# Altium footprint library Connectors.PcbLib: 76 footprints (part 3 of 5)
Each footprint in its own frame and in the unit in brackets; x right, y up, seen from the top. Pads: shape width x height; smd on the part's side, far side on the other; paste and mask are expansions set on the pad; w line width, h text height; cw(c..) or ccw(c..) is an arc to the next point about the centre after c.
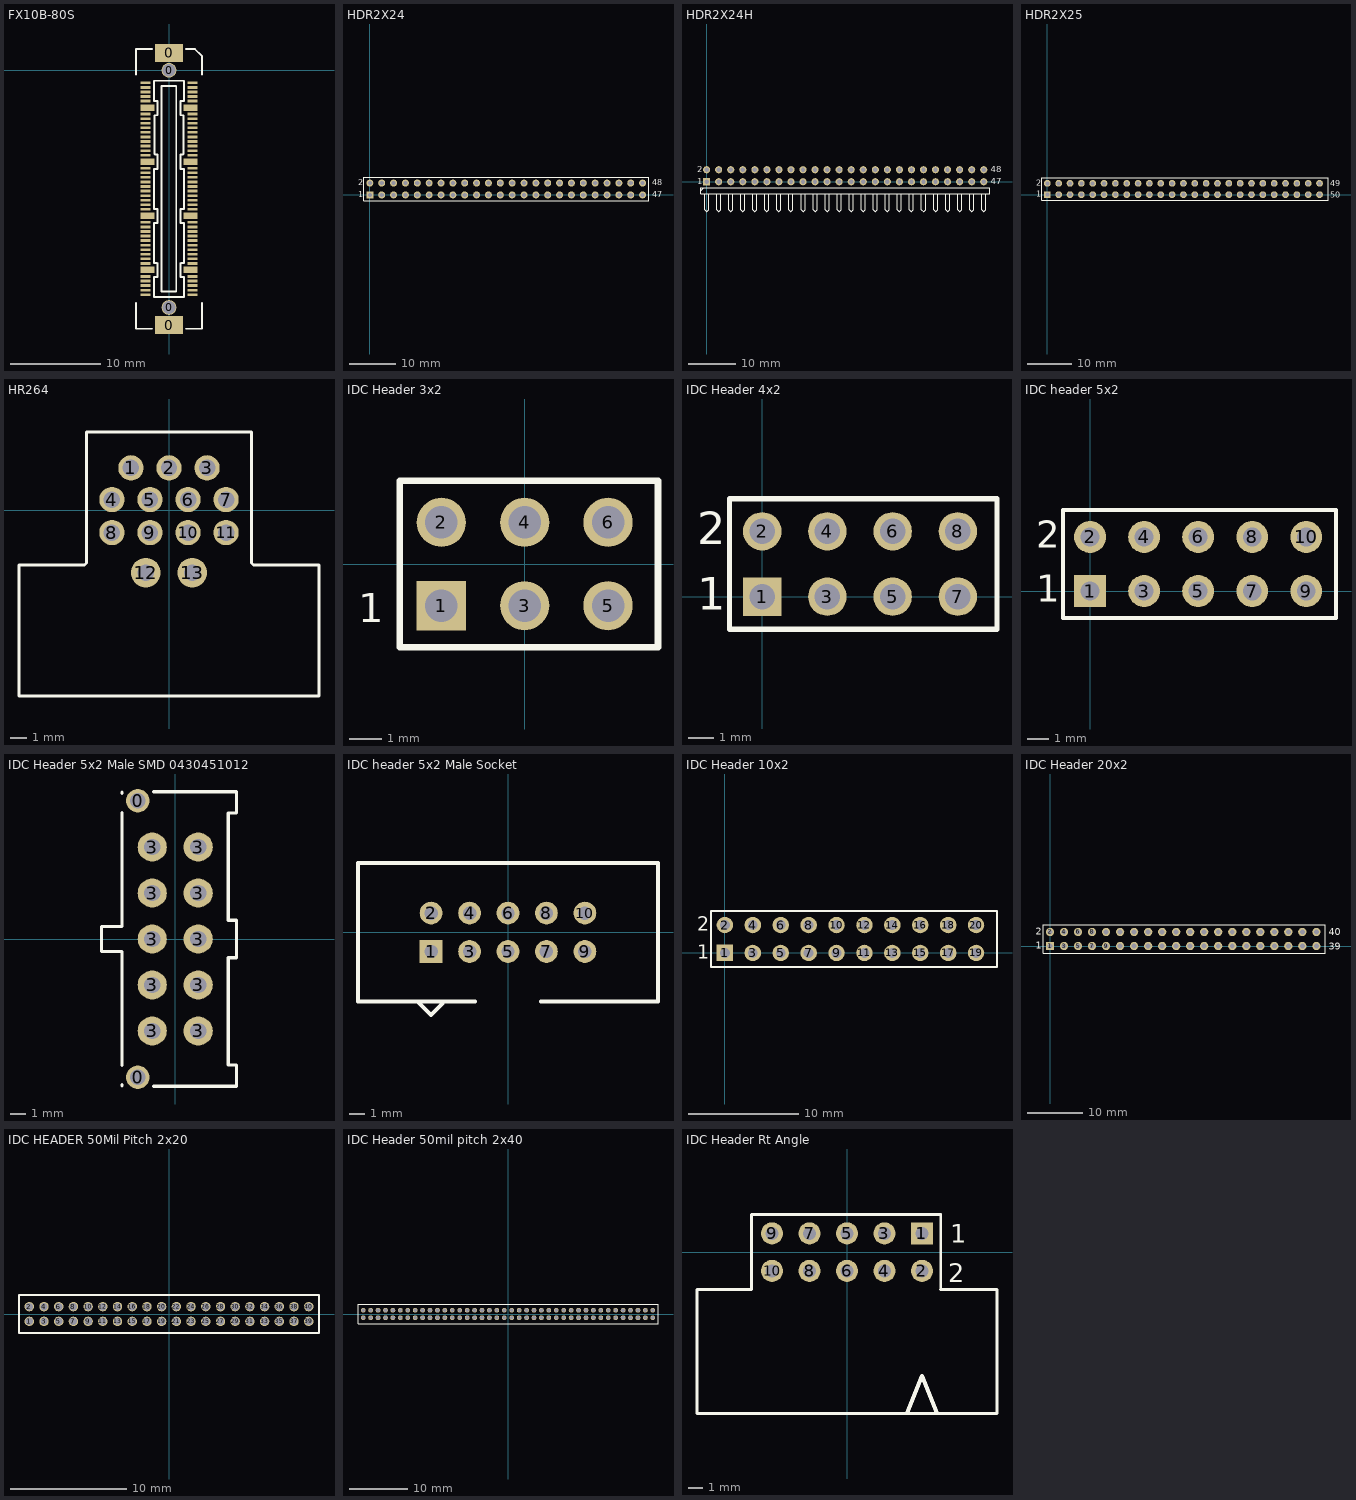
[diagram p2: the footprints below, top view; thin cyan lines are the x and y axes]

## FX10B-80S [mil]
pads (92):
  rect 60x28 smd: 0(-94,-874) 0(-94,-637) 0(-94,-401) 0(-94,-164) 0(94,-874) 0(94,-637) 0(94,-401) 0(94,-164)
  rect 122x78 smd: 0(0,-1116) 0(0,76)
  round 65 hole 55: 0(0,-1039) 0(0,0)
  rect 43x12 smd: 1(103,-55) 2(-103,-55) 3(103,-75) 4(-103,-75) 5(103,-95) 6(-103,-95) 7(103,-115) 8(-103,-115) 9(103,-135) 10(-103,-135) 11(103,-192) 12(-103,-192) 13(103,-212) 14(-103,-212) 15(103,-232) 16(-103,-232) 17(103,-252) 18(-103,-252) 19(103,-272) 20(-103,-272) 21(103,-292) 22(-103,-292) 23(103,-312) 24(-103,-312) 25(103,-332) 26(-103,-332) 27(103,-352) 28(-103,-352) 29(103,-372) 30(-103,-372) 31(103,-429) 32(-103,-429) 33(103,-449) 34(-103,-449) 35(103,-469) 36(-103,-469) 37(103,-489) 38(-103,-489) 39(103,-509) 40(-103,-509) 41(103,-529) 42(-103,-529) 43(103,-549) 44(-103,-549) 45(103,-569) 46(-103,-569) 47(103,-589) 48(-103,-589) 49(103,-609) 50(-103,-609) 51(103,-666) 52(-103,-666) 53(103,-686) 54(-103,-686) 55(103,-706) 56(-103,-706) 57(103,-726) 58(-103,-726) 59(103,-746) 60(-103,-746) 61(103,-766) 62(-103,-766) 63(103,-786) 64(-103,-786) 65(103,-806) 66(-103,-806) 67(103,-826) 68(-103,-826) 69(103,-846) 70(-103,-846) 71(103,-903) 72(-103,-903) 73(103,-923) 74(-103,-923) 75(103,-943) 76(-103,-943) 77(103,-963) 78(-103,-963) 79(103,-983) 80(-103,-983)
Top Overlay:
  lines w8: -144,-1020 -144,-1132 -75,-1132 ; -144,-19 -144,93 -75,93 ; 75,-1132 144,-1132 144,-1020 ; 75,93 114,93 144,63 144,-19 ; -65,-993 65,-993 65,-905 50,-905 50,-846 52,-844 65,-844 65,-669 51,-669 50,-670 50,-607 65,-607 65,-432 51,-432 51,-369 62,-369 63,-368 63,-197 51,-197 51,-134 65,-134 65,-46 -65,-46 -65,-134 -51,-134 -51,-197 -63,-197 -63,-368 -62,-369 -51,-369 -51,-432 -65,-432 -65,-607 -50,-607 -50,-670 -51,-669 -65,-669 -65,-844 -52,-844 -50,-846 -50,-905 -65,-905 -65,-993 ; -33,-969 32,-969 32,-69 -33,-69 -33,-969
3D body: height 131.24, standoff 5.26, extent -143,-1131.41 144.4,93

## HDR2X24 [mm] "Connector; Header; 24x2 Position"
pads (48):
  rect 1.5x1.5 hole 0.9: 1(0,0)
  round 1.5 hole 0.9: 2(0,2.54) 3(2.54,0) 4(2.54,2.54) 5(5.08,0) 6(5.08,2.54) 7(7.62,0) 8(7.62,2.54) 9(10.16,0) 10(10.16,2.54) 11(12.7,0) 12(12.7,2.54) 13(15.24,0) 14(15.24,2.54) 15(17.78,0) 16(17.78,2.54) 17(20.32,0) 18(20.32,2.54) 19(22.86,0) 20(22.86,2.54) 21(25.4,0) 22(25.4,2.54) 23(27.94,0) 24(27.94,2.54) 25(30.48,0) 26(30.48,2.54) 27(33.02,0) 28(33.02,2.54) 29(35.56,0) 30(35.56,2.54) 31(38.1,0) 32(38.1,2.54) 33(40.64,0) 34(40.64,2.54) 35(43.18,0) 36(43.18,2.54) 37(45.72,0) 38(45.72,2.54) 39(48.26,0) 40(48.26,2.54) 41(50.8,0) 42(50.8,2.54) 43(53.34,0) 44(53.34,2.54) 45(55.88,0) 46(55.88,2.54) 47(58.42,0) 48(58.42,2.54)
Top Overlay:
  lines w0.2: -1.27,-1.27 59.69,-1.27 59.69,3.81 -1.27,3.81 -1.27,-1.27
  text "2" at -2.54,2.032 h1.27
  text "1" at -2.54,-0.508 h1.27
  text "48" at 60.452,2.032 h1.27
  text "47" at 60.452,-0.508 h1.27

## HDR2X24H [mm] "Connector; Header; 24x2 Position; Right Angle"
pads (48):
  rect 1.5x1.5 hole 0.9: 1(0,0)
  round 1.5 hole 0.9: 2(0,2.54) 3(2.54,0) 4(2.54,2.54) 5(5.08,0) 6(5.08,2.54) 7(7.62,0) 8(7.62,2.54) 9(10.16,0) 10(10.16,2.54) 11(12.7,0) 12(12.7,2.54) 13(15.24,0) 14(15.24,2.54) 15(17.78,0) 16(17.78,2.54) 17(20.32,0) 18(20.32,2.54) 19(22.86,0) 20(22.86,2.54) 21(25.4,0) 22(25.4,2.54) 23(27.94,0) 24(27.94,2.54) 25(30.48,0) 26(30.48,2.54) 27(33.02,0) 28(33.02,2.54) 29(35.56,0) 30(35.56,2.54) 31(38.1,0) 32(38.1,2.54) 33(40.64,0) 34(40.64,2.54) 35(43.18,0) 36(43.18,2.54) 37(45.72,0) 38(45.72,2.54) 39(48.26,0) 40(48.26,2.54) 41(50.8,0) 42(50.8,2.54) 43(53.34,0) 44(53.34,2.54) 45(55.88,0) 46(55.88,2.54) 47(58.42,0) 48(58.42,2.54)
Top Overlay:
  lines w0.2: -1.27,-1.905 -0.635,-1.27 ; -0.423,-2.54 -0.423,-5.927 0,-6.35 0.423,-5.927 0.423,-2.54 ; 2.117,-2.54 2.117,-5.927 2.54,-6.35 2.963,-5.927 2.963,-2.54 ; 4.657,-2.54 4.657,-5.927 5.08,-6.35 5.503,-5.927 5.503,-2.54 ; 7.197,-2.54 7.197,-5.927 7.62,-6.35 8.043,-5.927 8.043,-2.54 ; 9.737,-2.54 9.737,-5.927 10.16,-6.35 10.583,-5.927 10.583,-2.54 ; 12.277,-2.54 12.277,-5.927 12.7,-6.35 13.123,-5.927 13.123,-2.54 ; 14.817,-2.54 14.817,-5.927 15.24,-6.35 15.663,-5.927 15.663,-2.54 ; 17.357,-2.54 17.357,-5.927 17.78,-6.35 18.203,-5.927 18.203,-2.54 ; 19.897,-2.54 19.897,-5.927 20.32,-6.35 20.743,-5.927 20.743,-2.54 ; 22.437,-2.54 22.437,-5.927 22.86,-6.35 23.283,-5.927 23.283,-2.54 ; 24.977,-2.54 24.977,-5.927 25.4,-6.35 25.823,-5.927 25.823,-2.54 ; 27.517,-2.54 27.517,-5.927 27.94,-6.35 28.363,-5.927 28.363,-2.54 ; 30.057,-2.54 30.057,-5.927 30.48,-6.35 30.903,-5.927 30.903,-2.54 ; 32.597,-2.54 32.597,-5.927 33.02,-6.35 33.443,-5.927 33.443,-2.54 ; 35.137,-2.54 35.137,-5.927 35.56,-6.35 35.983,-5.927 35.983,-2.54 ; 37.677,-2.54 37.677,-5.927 38.1,-6.35 38.523,-5.927 38.523,-2.54 ; 40.217,-2.54 40.217,-5.927 40.64,-6.35 41.063,-5.927 41.063,-2.54 ; 42.757,-2.54 42.757,-5.927 43.18,-6.35 43.603,-5.927 43.603,-2.54 ; 45.297,-2.54 45.297,-5.927 45.72,-6.35 46.143,-5.927 46.143,-2.54 ; 47.837,-2.54 47.837,-5.927 48.26,-6.35 48.683,-5.927 48.683,-2.54 ; 50.377,-2.54 50.377,-5.927 50.8,-6.35 51.223,-5.927 51.223,-2.54 ; 52.917,-2.54 52.917,-5.927 53.34,-6.35 53.763,-5.927 53.763,-2.54 ; 55.457,-2.54 55.457,-5.927 55.88,-6.35 56.303,-5.927 56.303,-2.54 ; 57.997,-2.54 57.997,-5.927 58.42,-6.35 58.843,-5.927 58.843,-2.54 ; -1.27,-2.54 -1.27,-1.27 59.69,-1.27 59.69,-2.54 -1.27,-2.54
  text "48" at 59.944,2.032 h1.27
  text "47" at 59.944,-0.508 h1.27
  text "1" at -2.032,-0.508 h1.27
  text "2" at -2.032,2.032 h1.27

## HDR2X25 [mm]
pads (50):
  rect 1.5x1.5 hole 0.889: 1(0,0)
  round 1.5 hole 0.889: 2(0,2.54) 3(2.54,0) 4(2.54,2.54) 5(5.08,0) 6(5.08,2.54) 7(7.62,0) 8(7.62,2.54) 9(10.16,0) 10(10.16,2.54) 11(12.7,0) 12(12.7,2.54) 13(15.24,0) 14(15.24,2.54) 15(17.78,0) 16(17.78,2.54) 17(20.32,0) 18(20.32,2.54) 19(22.86,0) 20(22.86,2.54) 21(25.4,0) 22(25.4,2.54) 23(27.94,0) 24(27.94,2.54) 25(30.48,0) 28(33.02,2.54) 29(35.56,0) 30(35.56,2.54) 31(38.1,0) 33(40.64,0) 34(40.64,2.54) 35(43.18,0) 36(43.18,2.54) 37(45.72,0) 38(45.72,2.54) 39(48.26,0) 40(48.26,2.54) 41(50.8,0) 42(50.8,2.54) 43(53.34,0) 44(53.34,2.54) 45(55.88,0) 46(55.88,2.54) 47(58.42,0) 48(58.42,2.54) 49(60.96,2.54) 50(60.96,0)
  round 1.5 hole 0.9: 26(30.48,2.54) 27(33.02,0) 32(38.1,2.54)
Top Overlay:
  lines w0.2: -1.27,-1.27 62.865,-1.27 62.865,3.81 -1.27,3.81 -1.27,-1.27
  text "2" at -2.54,2.032 h1.27
  text "1" at -2.54,-0.508 h1.27
  text "49" at 63.373,1.905 h1.27
  text "50" at 63.373,-0.635 h1.27

## HR264 [mil] "13 Pin Quick Con"
pads (13):
  round 60 hole 39: 1(-90,100) 2(0,100) 3(90,100) 4(-135,25) 5(-45,25) 6(45,25) 7(135,25) 8(-135,-53) 9(-45,-53) 10(45,-53) 11(135,-53)
  round 70 hole 39: 12(-55,-148) 13(55,-148)
Top Overlay:
  lines w7: -355,-440 355,-440 355,-130 200,-130 195,-125 195,185 -195,185 -195,-125 -200,-130 -355,-130 -355,-440

## HS383-ND [mil]

## IDC Header 3x2 [mm] "Dual SIP header"
height 5.08
pads (6):
  rect 1.5x1.5 hole 0.991: 1(-2.54,-1.27)
  round 1.5 hole 0.991: 2(-2.54,1.27) 3(0,-1.27) 4(0,1.27) 5(2.54,-1.27) 6(2.54,1.27)
Top Overlay:
  lines w0.2: -3.81,-2.54 -3.81,2.54
  lines w0.203: -3.81,-2.54 4.064,-2.54 4.064,2.54 -3.81,2.54
  text "1" at -5.08,-1.778 h0.89
3D body: height 5.21, standoff -3.3, extent -3.81,-2.54 3.81,2.54

## IDC Header 4x2 [mm]
pads (8):
  rect 1.5x1.5 hole 0.991: 1(0,0)
  round 1.5 hole 0.991: 2(0,2.54) 3(2.54,0) 4(2.54,2.54) 5(5.08,0) 6(5.08,2.54) 7(7.62,0) 8(7.62,2.54)
Top Overlay:
  lines w0.2: -1.27,-1.27 -1.27,3.81
  lines w0.203: -1.27,-1.27 9.144,-1.27 9.144,3.81 -1.27,3.81
  text "1" at -2.54,-0.508 h1.27
  text "2" at -2.54,2.032 h1.27

## IDC header 5x2 [mm]
pads (10):
  rect 1.5x1.5 hole 0.889: 1(0,0)
  round 1.5 hole 0.889: 2(0,2.54) 3(2.54,0) 4(2.54,2.54) 5(5.08,0) 6(5.08,2.54) 7(7.62,0) 8(7.62,2.54) 9(10.16,0) 10(10.16,2.54)
Top Overlay:
  lines w0.2: -1.27,-1.27 -1.27,3.81
  lines w0.203: -1.27,-1.27 11.557,-1.27 11.557,3.81 -1.27,3.81
  text "2" at -2.54,2.032 h1.27
  text "1" at -2.54,-0.508 h1.27
3D body: height 5.21, standoff -2.41, extent -1.27,-1.27 11.43,3.81

## IDC Header 5x2 Male SMD 0430451012 [mil]
pads (12):
  round 60 hole 40: 0(-96,-355) 0(-96,355)
  round 75 hole 42: 3(-59,-236) 3(-59,-118) 3(-59,0) 3(-59,118) 3(-59,236) 3(59,-236) 3(59,-118) 3(59,0) 3(59,118) 3(59,236)
Top Overlay:
  lines w8: -137,-377 -137,-373 ; -137,-325 -137,-32 -189,-32 -189,0 -189,32 -137,32 -137,325 ; -137,373 -137,377 ; -55,-378 157,-378 157,-323 136,-323 136,-48 157,-48 157,0 157,48 136,48 136,323 157,323 157,378 -55,378
3D body: height 394.88, standoff -120.47, extent -188.28,-376 157,377.94

## IDC header 5x2 Male Socket [mm] "10 pin Male IDE socket"
height 8.89
pads (10):
  rect 1.5x1.5 hole 0.889: 1(-5.08,-1.27)
  round 1.5 hole 0.889: 2(-5.08,1.27) 3(-2.54,-1.27) 4(-2.54,1.27) 5(0,-1.27) 6(0,1.27) 7(2.54,-1.27) 8(2.54,1.27) 9(5.08,-1.27) 10(5.08,1.27)
Top Overlay:
  lines w0.254: -6.223,-4.572 -5.969,-4.572 -5.08,-5.461 -4.318,-4.699 -4.318,-4.572 ; -2.159,-4.572 -9.906,-4.572 -9.906,4.572 9.906,4.572 9.906,-4.572 2.159,-4.572

## IDC Header 10x2 [mm] "IDC Header"
height 3.81
pads (20):
  rect 1.5x1.5 hole 0.889: 1(0,0)
  round 1.5 hole 0.889: 2(0,2.54) 3(2.54,0) 4(2.54,2.54) 5(5.08,0) 6(5.08,2.54) 7(7.62,0) 8(7.62,2.54) 9(10.16,0) 10(10.16,2.54) 11(12.7,0) 12(12.7,2.54) 13(15.24,0) 14(15.24,2.54) 15(17.78,0) 16(17.78,2.54) 17(20.32,0) 18(20.32,2.54) 19(22.86,0) 20(22.86,2.54)
Top Overlay:
  lines w0.2: -1.27,-1.27 -1.27,3.81
  lines w0.203: -1.27,-1.27 24.765,-1.27 24.765,3.81 -1.27,3.81
  text "2" at -2.54,2.032 h1.27
  text "1" at -2.54,-0.508 h1.27

## IDC Header 20x2 [mm]
pads (40):
  rect 1.5x1.5 hole 0.9: 1(0,0)
  round 1.5 hole 0.9: 2(0,2.54) 3(2.54,0) 4(2.54,2.54) 5(5.08,0) 6(5.08,2.54) 7(7.62,0) 8(7.62,2.54) 9(10.16,0) 10(10.16,2.54) 11(12.7,0) 12(12.7,2.54) 13(15.24,0) 14(15.24,2.54) 15(17.78,0) 16(17.78,2.54) 17(20.32,0) 18(20.32,2.54) 19(22.86,0) 20(22.86,2.54) 21(25.4,0) 22(25.4,2.54) 23(27.94,0) 24(27.94,2.54) 25(30.48,0) 26(30.48,2.54) 27(33.02,0) 28(33.02,2.54) 29(35.56,0) 30(35.56,2.54) 31(38.1,0) 32(38.1,2.54) 33(40.64,0) 34(40.64,2.54) 35(43.18,0) 36(43.18,2.54) 37(45.72,0) 38(45.72,2.54) 39(48.26,0) 40(48.26,2.54)
Top Overlay:
  lines w0.2: -1.27,-1.27 -1.27,3.81 49.911,3.81 49.911,-1.27 -1.27,-1.27
  text "39" at 50.546,-0.635 h1.27
  text "40" at 50.546,1.905 h1.27
  text "1" at -2.54,-0.508 h1.27
  text "2" at -2.54,2.032 h1.27

## IDC HEADER 50Mil Pitch 2x20 [mil]
pads (40):
  round 32 / inner round 25 / far side round 40 hole 25: 1(-475,-25) 2(-475,25) 3(-425,-25) 4(-425,25) 5(-375,-25) 6(-375,25) 7(-325,-25) 8(-325,25) 9(-275,-25) 10(-275,25) 11(-225,-25) 12(-225,25) 13(-175,-25) 14(-175,25) 15(-125,-25) 16(-125,25) 17(-75,-25) 18(-75,25) 19(-25,-25) 20(-25,25) 21(25,-25) 22(25,25) 23(75,-25) 24(75,25) 25(125,-25) 26(125,25) 27(175,-25) 28(175,25) 29(225,-25) 30(225,25) 31(275,-25) 32(275,25) 33(325,-25) 34(325,25) 35(375,-25) 36(375,25) 37(425,-25) 38(425,25) 39(475,-25) 40(475,25)
Top Overlay:
  lines w7: -510,-65 -510,65 510,65 510,-65 -510,-65

## IDC Header 50mil pitch 2x40 [mil]
pads (80):
  round 32 / inner round 25 / far side round 40 hole 25: 1(-975,-25) 2(-975,25) 3(-925,-25) 4(-925,25) 5(-875,-25) 6(-875,25) 7(-825,-25) 8(-825,25) 9(-775,-25) 10(-775,25) 11(-725,-25) 12(-725,25) 13(-675,-25) 14(-675,25) 15(-625,-25) 16(-625,25) 17(-575,-25) 18(-575,25) 19(-525,-25) 20(-525,25) 21(-475,-25) 22(-475,25) 23(-425,-25) 24(-425,25) 25(-375,-25) 26(-375,25) 27(-325,-25) 28(-325,25) 29(-275,-25) 30(-275,25) 31(-225,-25) 32(-225,25) 33(-175,-25) 34(-175,25) 35(-125,-25) 36(-125,25) 37(-75,-25) 38(-75,25) 39(-25,-25) 40(-25,25) 41(25,-25) 42(25,25) 43(75,-25) 44(75,25) 45(125,-25) 46(125,25) 47(175,-25) 48(175,25) 49(225,-25) 50(225,25) 51(275,-25) 52(275,25) 53(325,-25) 54(325,25) 55(375,-25) 56(375,25) 57(425,-25) 58(425,25) 59(475,-25) 60(475,25) 61(525,-25) 62(525,25) 63(575,-25) 64(575,25) 65(625,-25) 66(625,25) 67(675,-25) 68(675,25) 69(725,-25) 70(725,25) 71(775,-25) 72(775,25) 73(825,-25) 74(825,25) 75(875,-25) 76(875,25) 77(925,-25) 78(925,25) 79(975,-25) 80(975,25)
Top Overlay:
  lines w7: -1010,-65 1010,-65 1010,65 -1010,65 -1010,-65

## IDC Header Rt Angle [mm] "IDC Header rt Angle"
height 8.636
pads (10):
  rect 1.5x1.5 hole 0.889: 1(5.08,1.27)
  round 1.5 hole 0.889: 2(5.08,-1.27) 3(2.54,1.27) 4(2.54,-1.27) 5(0,1.27) 6(0,-1.27) 7(-2.54,1.27) 8(-2.54,-1.27) 9(-5.08,1.27) 10(-5.08,-1.27)
Top Overlay:
  lines w0.2: 6.35,-2.54 6.35,2.54
  lines w0.203: 6.35,-2.54 10.16,-2.54 10.16,-10.922 -10.16,-10.922 -10.16,-2.54 -6.477,-2.54 -6.477,2.54 6.35,2.54
  lines w0.254: 4.064,-10.922 5.08,-8.382 6.096,-10.922
  text "1" at 6.985,0.635 h1.27
  text "2" at 6.858,-2.032 h1.27